# Altium footprint library SST39VF801C.PcbLib: 1 footprints
Each footprint in its own frame and in the unit in brackets; x right, y up, seen from the top. Pads: shape width x height; smd on the part's side, far side on the other; paste and mask are expansions set on the pad; w line width, h text height; cw(c..) or ccw(c..) is an arc to the next point about the centre after c.
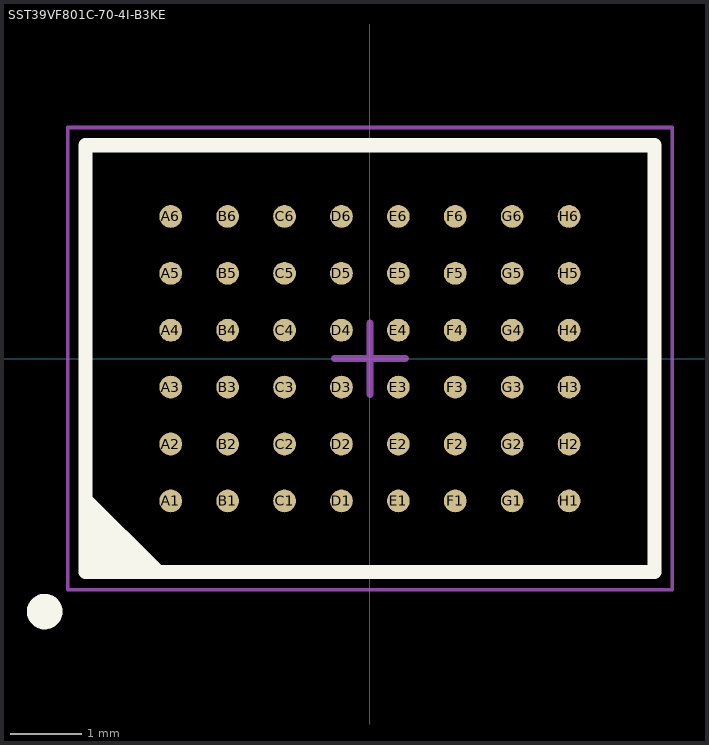
[diagram p0: the footprint, top view; thin cyan lines are the x and y axes]

## SST39VF801C-70-4I-B3KE [mm] "BGA, 48-Leads, Body 8,00x6,00mmx1,10mm, Pitch 0,80mm"
height 1.1
pads (48):
  round 0.32 smd: A1(-2.8,-2) A2(-2.8,-1.2) A3(-2.8,-0.4) A4(-2.8,0.4) A5(-2.8,1.2) A6(-2.8,2) B1(-2,-2) B2(-2,-1.2) B3(-2,-0.4) B4(-2,0.4) B5(-2,1.2) B6(-2,2) C1(-1.2,-2) C2(-1.2,-1.2) C3(-1.2,-0.4) C4(-1.2,0.4) C5(-1.2,1.2) C6(-1.2,2) D1(-0.4,-2) D2(-0.4,-1.2) D3(-0.4,-0.4) D4(-0.4,0.4) D5(-0.4,1.2) D6(-0.4,2) E1(0.4,-2) E2(0.4,-1.2) E3(0.4,-0.4) E4(0.4,0.4) E5(0.4,1.2) E6(0.4,2) F1(1.2,-2) F2(1.2,-1.2) F3(1.2,-0.4) F4(1.2,0.4) F5(1.2,1.2) F6(1.2,2) G1(2,-2) G2(2,-1.2) G3(2,-0.4) G4(2,0.4) G5(2,1.2) G6(2,2) H1(2.8,-2) H2(2.8,-1.2) H3(2.8,-0.4) H4(2.8,0.4) H5(2.8,1.2) H6(2.8,2)
Top Overlay:
  circle w0.25: c-4.572,-3.556 r0.125
  region: -3.929,-1.913 -2.929,-2.913 -3.929,-2.913
  lines w0.2: -4,-3 -4,3 4,3 4,-3 -4,-3
Mechanical 13:
  lines w0.1: -4,-3 -4,3 4,3 4,-3 -4,-3
Mechanical 15:
  lines w0.05: -4.25,-3.25 -4.25,3.25 4.25,3.25 4.25,-3.25 -4.25,-3.25
  lines w0.1: -0.5,0 0.5,0 ; 0,-0.5 0,0.5
3D body "BGA48C80P8X6_800X600X110.step": height 1.1, standoff 0, extent -4,-3 4,3